# Altium footprint library ATMEGA328P-MUR.PcbLib: 2 footprints
Each footprint in its own frame and in the unit in brackets; x right, y up, seen from the top. Pads: shape width x height; smd on the part's side, far side on the other; paste and mask are expansions set on the pad; w line width, h text height; cw(c..) or ccw(c..) is an arc to the next point about the centre after c.
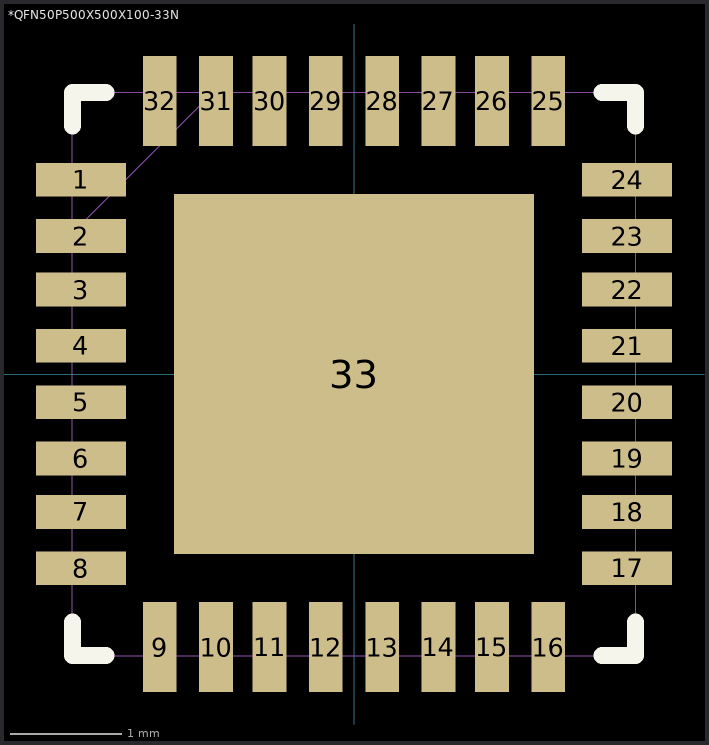
[diagram p0: the footprints below, top view; thin cyan lines are the x and y axes]

## *QFN50P500X500X100-33N [mil]
pads (33):
  rect 32x12 smd: 1(-97,69) 2(-97,49) 3(-97,30) 4(-97,10) 5(-97,-10) 6(-97,-30) 7(-97,-49) 8(-97,-69) 17(97,-69) 18(97,-49) 19(97,-30) 20(97,-10) 21(97,10) 22(97,30) 23(97,49) 24(97,69)
  rect 12x32 smd: 9(-69,-97) 10(-49,-97) 11(-30,-97) 12(-10,-97) 13(10,-97) 14(30,-97) 15(49,-97) 16(69,-97) 25(69,97) 26(49,97) 27(30,97) 28(10,97) 29(-10,97) 30(-30,97) 31(-49,97) 32(-69,97)
  rect 128x128 smd: 33(0,0)
Top Overlay:
  lines w6: -100,-88 -100,-100 -88,-100 ; -100,88 -100,100 -88,100 ; 88,-100 100,-100 100,-88 ; 88,100 100,100 100,88
Mechanical 13:
  lines w0: -100,-100 -100,100 ; -100,-100 100,-100 ; -100,-100 -100,100 ; -100,-100 100,-100 ; -100,100 100,100 ; -100,100 100,100 ; 100,-100 100,100 ; 100,-100 100,100 ; -100,-75 -100,-63 -100,-75 ; -100,-55 -100,-43 -100,-55 ; -100,-35 -100,-24 -100,-35 ; -100,-16 -100,-4 -100,-16 ; -100,4 -100,16 -100,4 ; -100,24 -100,35 -100,24 ; -100,43 -100,55 -100,43 ; -100,50 -50,100 -100,50 ; -100,63 -100,75 -100,63 ; -75,-100 -63,-100 -75,-100 ; -75,100 -63,100 -75,100 ; -55,-100 -43,-100 -55,-100 ; -55,100 -43,100 -55,100 ; -35,-100 -24,-100 -35,-100 ; -35,100 -24,100 -35,100 ; -16,-100 -4,-100 -16,-100 ; -16,100 -4,100 -16,100 ; 4,-100 16,-100 4,-100 ; 4,100 16,100 4,100 ; 24,-100 35,-100 24,-100 ; 24,100 35,100 24,100 ; 43,-100 55,-100 43,-100 ; 43,100 55,100 43,100 ; 63,-100 75,-100 63,-100 ; 63,100 75,100 63,100 ; 100,-75 100,-63 100,-75 ; 100,-55 100,-43 100,-55 ; 100,-35 100,-24 100,-35 ; 100,-16 100,-4 100,-16 ; 100,4 100,16 100,4 ; 100,24 100,35 100,24 ; 100,43 100,55 100,43 ; 100,63 100,75 100,63

## PCBComponent_1 [mil]